# Altium schematic symbol library BMS.Sch.Lib.SchLib: 71 symbols (part 1 of 3)
Pins are listed as number, name and electrical type; pins without a type are passive.

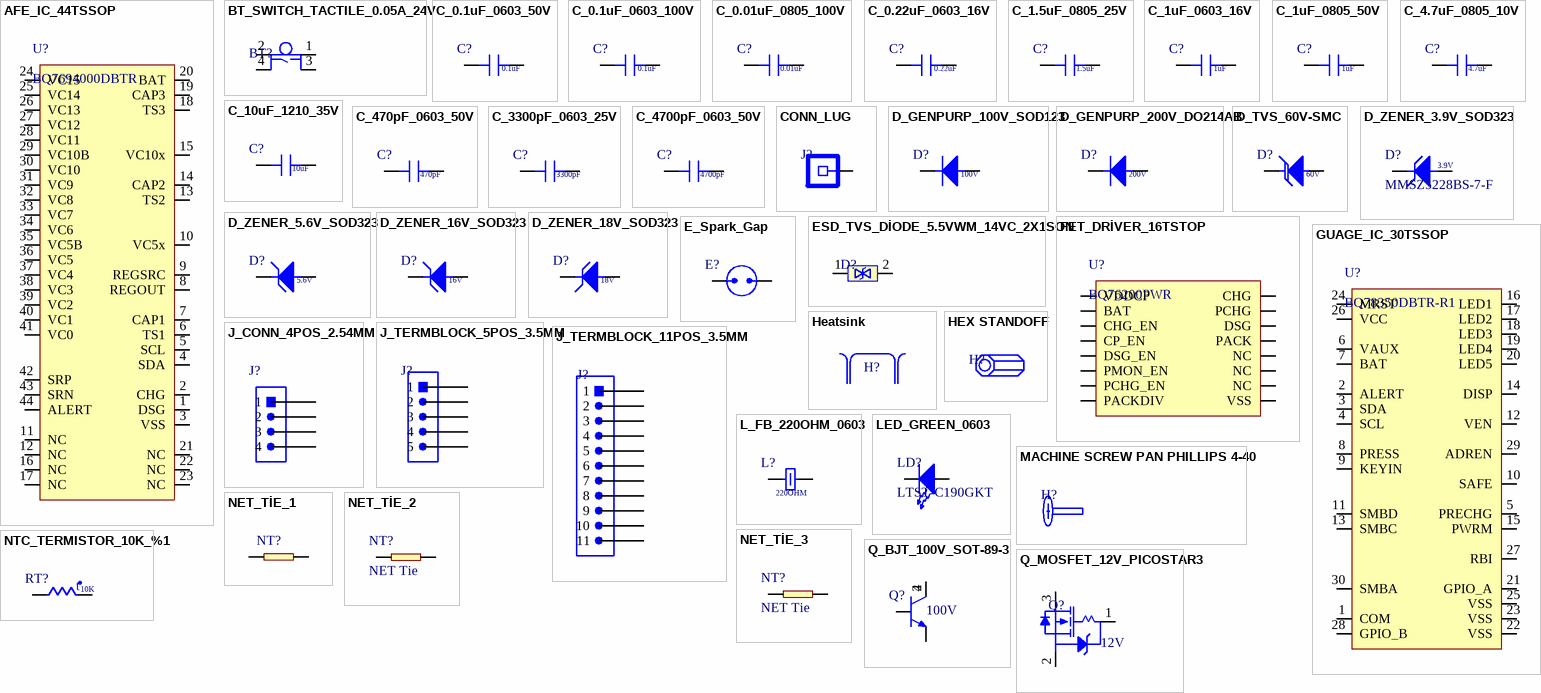
[diagram p0: symbols AFE_IC_44TSSOP to Q_MOSFET_12V_PICOSTAR3]

## AFE_IC_44TSSOP
designator U?, comment BQ7694000DBTR
9 to 15-series cell li-ion and li-phosphate battery monitor (bq76940 family) 44-TSSOP -40 to 85; Manufacturer: Texas Instruments; Supplier: Digikey; Supplier Part Number: 296-BQ7694000DBTRCT-ND; Manufacturer Part Number: BQ7694000DBTR; RoHS: Yes; Category: Battery Management; Stock: 2000; Pricing: 1=5,92, 10=5,317, 25=5,0268, 100=4,3565, 250=4,13312, 500=3,70864, 1000=3,12777 (USD); ComponentLink1URL: http://www.ti.com/lit/gpn/bq76940?src-supplier=Mouser; ComponentLink1Description: http://www.ti.com/lit/gpn/bq76940?src-supplier=Mouser; ComponentLink2URL: http://www.ti.com/general/docs/suppproductinfo.tsp?distId=10&amp;gotoUrl=http%3A%2F%2Fwww.ti.com%2Flit%2Fgpn%2Fbq76920&src-supplier=Digikey; ComponentLink2Description: http://www.ti.com/general/docs/suppproductinfo.tsp?distId=10&amp;gotoUrl=http%3A%2F%2Fwww.ti.com%2Flit%2Fgpn%2Fbq76920&src-supplier=Digikey; ComponentLink3URL: http://www.ti.com/general/docs/lit/getliterature.tsp?genericPartNumber=BQ76920&&fileType=pdf&src-supplier=Avnet; ComponentLink3Description: http://www.ti.com/general/docs/lit/getliterature.tsp?genericPartNumber=BQ76920&&fileType=pdf&src-supplier=Avnet
footprint 44TSSOP
pins: 1 DSG, 2 CHG, 3 VSS, 4 SDA, 5 SCL, 6 TS1, 7 CAP1, 8 REGOUT, 9 REGSRC, 10 VC5x, 11 NC, 12 NC, 13 TS2, 14 CAP2, 15 VC10x, 16 NC, 17 NC, 18 TS3, 19 CAP3, 20 BAT, 21 NC, 22 NC, 23 NC, 24 VC15, 25 VC14, 26 VC13, 27 VC12, 28 VC11, 29 VC10B, 30 VC10, 31 VC9, 32 VC8, 33 VC7, 34 VC6, 35 VC5B, 36 VC5, 37 VC4, 38 VC3, 39 VC2, 40 VC1, 41 VC0, 42 SRP, 43 SRN, 44 ALERT

## BT_SWITCH_TACTILE_0.05A_24V
designator BT?, comment 1977223-6  (value not drawn)
Pushbutton Switch, SPST, Momentary, 0.05A, 24VDC, Solder Terminal, Panel Mount; Manufacturer: TE Connectivity; Manufacturer Part Number: FSM4JSMA; Actuator Material: Polyphenylene; Mechanical Life: 100000Cycles; Operating Force: 1.57N; Illumination Type: Non-Illuminated,Illuminated; Switch Function: Off-Mom; Switch Travel: 0.25mm; Current Rating: 50mA; Voltage Rating (DC): 24V; Actuator Type: Standard; Insulation Resistance: 100MR; Actuator Length: 1.4mm; Number of Positions: 2NUMBER; Supplier: Farnell; Supplier Part Number: 3801305; RoHS: Yes; Category: Pushbutton Switches; Stock: 16293; Pricing: 10=0,175, 50=0,173, 100=0,171, 500=0,168 (EUR); Mounting Technology: Surface Mount; Case/Package: SMD/SMT; Contact Material: Copper Alloy,Silver; Contact Plating: Silver; Color: Black; Min Operating Temperature: -35°C; Max Operating Temperature: 85°C; Packaging: Bulk; Throw Configuration: SPST; Termination: Gull Wing; Contact Current Rating: 50mA; Orientation: Straight; Series: FSMJSMA; Max Current Rating: 50mA; Voltage Rating: 24V; Package Quantity: 750; Length: 6mm; Width: 6mm; Depth: 10mm; Reach SVHC Compliant: Unknown; Lead Free: Lead Free; RoHS Compliant: Yes; ELV: Compliant; ComponentLink1URL: https://datasheet.ciiva.com/16312/1977223-8-16312304.pdf?src-supplier=Future+Electronics; ComponentLink1Description: https://datasheet.ciiva.com/16312/1977223-8-16312304.pdf?src-supplier=Future+Electronics; ComponentLink2URL: https://datasheet.ciiva.com/30161/19772236780a-30161988.pdf?src-supplier=Onlinecomponents.com; ComponentLink2Description: https://datasheet.ciiva.com/30161/19772236780a-30161988.pdf?src-supplier=Onlinecomponents.com; ComponentLink3URL: https://datasheet.ciiva.com/41839/eng-cd-1977223-a4-41839198.pdf?src-supplier=Digikey; ComponentLink3Description: https://datasheet.ciiva.com/41839/eng-cd-1977223-a4-41839198.pdf?src-supplier=Digikey; ComponentLink4URL: https://datasheet.ciiva.com/41834/eng-cd-1977223-a4-41834279.pdf?src-supplier=Digikey; ComponentLink4Description: https://datasheet.ciiva.com/41834/eng-cd-1977223-a4-41834279.pdf?src-supplier=Digikey
footprint BUTTOM
pins: 1, 2, 3, 4

## C_0.1uF_0603_50V
designator C?, comment value 0.1uF  (hidden comment: C1608X7R1H104K080AA)
Ceramic Capacitor, Multilayer, Ceramic, 50V, 10% -Tol, X7R, 15% Tc, 0.1Uf, Surface Mount, 0603; Manufacturer: TDK; Material: 4241ConductorMaterial; Supplier: Mouser; Supplier Part Number: 810-C1608X7R1H104K; Manufacturer Part Number: C1608X7R1H104K080AA; RoHS: Yes; Category: Ceramic Capacitors; Stock: 870852; Pricing: 1=0,1, 10=0,041, 50=0,041, 100=0,024, 1000=0,018, 10000=0,015 (USD); Mounting Technology: Surface Mount; Case/Package: 0603; Pins: 2NUMBER; Case Code (Imperial): 0603; Case Code (Metric): 1608; Dielectric Material: 4241ConductorMaterial; Min Operating Temperature: -55°C; Max Operating Temperature: 125°C; Voltage Rating: 50V; Tolerance: 10%; Packaging: Tape and Reel; Package Quantity: 1; Dielectric: X7R; Termination: SMD/SMT; Voltage: 50V; Series: C; Construction: Flat; Length: 1.6mm; Width: 0.031inch; Height: 0.8mm; Thickness: 0.037inch; Depth: 0.8mm; Reach SVHC Compliant: No; RoHS Compliant: Yes; Lead Free: 5697LeadFree
footprint C_0603
pins: 1, 2

## C_0.1uF_0603_100V
designator C?, comment value 0.1uF  (hidden comment: GRM188R72A104KA35D)
Multilayer Ceramic Capacitor, 0.1 uF, 100 V, ± 10%, X7R, 0603 [1608 Metric]; Manufacturer: Murata; Voltage Rating: 100V; Supplier: Mouser; Supplier Part Number: 81-GRM188R72A104KA35; Manufacturer Part Number: GRM188R72A104KA35D; RoHS: Yes; Category: Ceramic Capacitors; Stock: 809956; Pricing: 1=0,2, 10=0,086, 50=0,086, 100=0,05, 1000=0,043, 10000=0,035 (USD); Mounting Technology: Surface Mount; Case/Package: 0603; Weight: 0.000222oz; Case Code (Imperial): 0603; Case Code (Metric): 1608; Material: Ceramic; Min Operating Temperature: -55°C; Max Operating Temperature: 125°C; Tolerance: 10%; Dielectric: X7R; Voltage Rating (DC): 100V; Packaging: Tape and Reel; Package Quantity: 1; Termination: SMD/SMT; Voltage: 100V; Series: GRM; Construction: Flat; Length: 1.6mm; Width: 0.031inch; Height: 0.8mm; Thickness: 0.035inch; Depth: 0.8mm; Size: 0.8mm; Radiation Hardening: No; Reach SVHC Compliant: No; RoHS Compliant: Yes; Lead Free: 5697LeadFree; ComponentLink1URL: https://datasheet.ciiva.com/18100/getdatasheetpartid-27818-18100710.pdf?src-supplier=Verical; ComponentLink1Description: https://datasheet.ciiva.com/18100/getdatasheetpartid-27818-18100710.pdf?src-supplier=Verical; ComponentLink2URL: https://datasheet.ciiva.com/22703/1747473-22703345.pdf?src-supplier=Element14; ComponentLink2Description: https://datasheet.ciiva.com/22703/1747473-22703345.pdf?src-supplier=Element14; ComponentLink3URL: https://datasheet.ciiva.com/34302/1857815-34302863.pdf?src-supplier=Jameco; ComponentLink3Description: https://datasheet.ciiva.com/34302/1857815-34302863.pdf?src-supplier=Jameco; ComponentLink4URL: https://datasheet.ciiva.com/11787/0900766b80ef921d-11787064.pdf?src-supplier=Rs; ComponentLink4Description: https://datasheet.ciiva.com/11787/0900766b80ef921d-11787064.pdf?src-supplier=Rs; ComponentLink5URL: https://datasheet.ciiva.com/29201/451984-da-01-en-vs-kondensator-0603-29201725.pdf?src-supplier=Conrad; ComponentLink5Description: https://datasheet.ciiva.com/29201/451984-da-01-en-vs-kondensator-0603-29201725.pdf?src-supplier=Conrad; ComponentLink6URL: https://datasheet.ciiva.com/7937/1747473-7937676.pdf?src-supplier=Element14; ComponentLink6Description: https://datasheet.ciiva.com/7937/1747473-7937676.pdf?src-supplier=Element14; ComponentLink7URL: https://datasheet.ciiva.com/135/partnumbering-e-01-135140.pdf?src-supplier=Digikey; ComponentLink7Description: https://datasheet.ciiva.com/135/partnumbering-e-01-135140.pdf?src-supplier=Digikey; ComponentLink8URL: https://datasheet.ciiva.com/135/partnumbering-e-01-135139.pdf?src-supplier=Digikey; ComponentLink8Description: https://datasheet.ciiva.com/135/partnumbering-e-01-135139.pdf?src-supplier=Digikey; ComponentLink9URL: https://datasheet.ciiva.com/135/partnumbering-e-01-135141.pdf?src-supplier=Digikey; ComponentLink9Description: https://datasheet.ciiva.com/135/partnumbering-e-01-135141.pdf?src-supplier=Digikey; ComponentLink10URL: https://datasheet.ciiva.com/16382/product-16382965.pdf?src-supplier=Future+Electronics; ComponentLink10Description: https://datasheet.ciiva.com/16382/product-16382965.pdf?src-supplier=Future+Electronics
footprint C_0603
pins: 1, 2

## C_0.01uF_0805_100V
designator C?, comment value 0.01uF  (hidden comment: KGM21NR72A103KT)
Cap Cer 10000PF 100V X7R 0805; Manufacturer: Kyocera AVX; Supplier: Mouser; Supplier Part Number: 581-KGM21NR72A103KT; Manufacturer Part Number: KGM21NR72A103KT; RoHS: No; Category: Ceramic Capacitors; Stock: 110390; Pricing: 1=0,11, 10=0,044, 50=0,044, 100=0,026, 1000=0,019, 10000=0,016 (USD)
footprint C_0805
pins: 1, 2

## C_0.22uF_0603_16V
designator C?, comment value 0.22uF  (hidden comment: 885012206048)
Ceramic Capacitor 220nF, 16VDC, 0603, ±10 %; Manufacturer: Wurth Electronics; Insulation Resistance: 2.3GR; Supplier: Mouser; Supplier Part Number: 710-885012206048; Manufacturer Part Number: 885012206048; RoHS: Yes; Category: Ceramic Capacitors; Stock: 28778; Pricing: 1=0,1, 10=0,044, 50=0,044, 100=0,04, 1000=0,035, 10000=0,029 (USD); Height: 800um; ComponentLink1URL: http://www.farnell.com/datasheets/1995922.pdf?src-supplier=Farnell; ComponentLink1Description: http://www.farnell.com/datasheets/1995922.pdf?src-supplier=Farnell; ComponentLink2URL: https://katalog.we-online.de/pbs/datasheet/885012206048.pdf?src-supplier=Digikey; ComponentLink2Description: https://katalog.we-online.de/pbs/datasheet/885012206048.pdf?src-supplier=Digikey; ComponentLink3URL: https://datasheet.octopart.com/885012206048-W%C3%BCrth-Elektronik-datasheet-61282229.pdf?src-supplier=Element14; ComponentLink3Description: https://datasheet.octopart.com/885012206048-W%C3%BCrth-Elektronik-datasheet-61282229.pdf?src-supplier=Element14
footprint C_0603
pins: 1, 2

## C_1.5uF_0805_25V
designator C?, comment value 1.5uF  (hidden comment: GRM21BR71E155KA88L)
0805 1.5 uF 25 V ±10% Tolerance X7R SMT Multilayer Ceramic Capacitor; Manufacturer: Murata; Voltage Rating: 25V; Supplier: Mouser; Supplier Part Number: 81-GRM21BR71E155KA8L; Manufacturer Part Number: GRM21BR71E155KA88L; RoHS: Yes; Category: Ceramic Capacitors; Stock: 48189; Pricing: 1=0,49, 10=0,245, 50=0,245, 100=0,157, 1000=0,129, 10000=0,085 (USD); Mounting Technology: Surface Mount; Case/Package: 0805; Case Code (Imperial): 0805; Case Code (Metric): 2012; Min Operating Temperature: -55°C; Max Operating Temperature: 125°C; Tolerance: 10%; Dielectric: X7R; Packaging: Tape and Reel; Voltage Rating (DC): 25V; Package Quantity: 1; Termination: SMD/SMT; Voltage: 25V; Series: GRM; Construction: Flat; Length: 2mm; Width: 0.049inch; Height: 1.25mm; Thickness: 0.053inch; Depth: 1.25mm; Radiation Hardening: No; Lead Free: Lead Free; RoHS Compliant: Yes; ComponentLink1URL: https://datasheet.ciiva.com/172/product-172215.pdf?src-supplier=Digikey; ComponentLink1Description: https://datasheet.ciiva.com/172/product-172215.pdf?src-supplier=Digikey; ComponentLink2URL: https://datasheet.ciiva.com/172/product-172214.pdf?src-supplier=Digikey; ComponentLink2Description: https://datasheet.ciiva.com/172/product-172214.pdf?src-supplier=Digikey; ComponentLink3URL: https://datasheet.ciiva.com/3778/131grm21br71e155ka8823-3778948.pdf?src-supplier=Arrow+Electronics; ComponentLink3Description: https://datasheet.ciiva.com/3778/131grm21br71e155ka8823-3778948.pdf?src-supplier=Arrow+Electronics; ComponentLink4URL: https://datasheet.ciiva.com/29534/partnumbering-e-01-29534267.pdf?src-supplier=Digikey; ComponentLink4Description: https://datasheet.ciiva.com/29534/partnumbering-e-01-29534267.pdf?src-supplier=Digikey; ComponentLink5URL: https://datasheet.ciiva.com/11615/product-11615739.pdf?src-supplier=Avnet; ComponentLink5Description: https://datasheet.ciiva.com/11615/product-11615739.pdf?src-supplier=Avnet; ComponentLink6URL: https://datasheet.ciiva.com/16219/l0005e-16219125.pdf?src-supplier=Future+Electronics; ComponentLink6Description: https://datasheet.ciiva.com/16219/l0005e-16219125.pdf?src-supplier=Future+Electronics
footprint C_0805
pins: 1, 2

## C_1uF_0603_16V
designator C?, comment value 1uF  (hidden comment: 885012206052)
Capacitor, 1uF Multilayer Ceramic MLCC 16 V , X7R Dielectric 0603 Surface Mount | Wurth Electronics 885012206052; Material: 4241ConductorMaterial; Voltage Rating: 16V; Tolerance: 10%; Insulation Resistance: 100MR; Supplier: Mouser; Supplier Part Number: 710-885012206052; Manufacturer: Wurth Electronics; Manufacturer Part Number: 885012206052; RoHS: Yes; Category: Ceramic Capacitors; Stock: 13778; Pricing: 1=0,16, 10=0,153, 50=0,153, 100=0,141, 1000=0,123, 10000=0,11 (USD); Mounting Technology: Surface Mount; Case/Package: 0603; Case Code (Metric): 1608; Case Code (Imperial): 0603; Min Operating Temperature: -55°C; Max Operating Temperature: 125°C; Packaging: Cut Tape; Dielectric: X7R; Series: WCAP-CSGP; Voltage Rating (DC): 16V; Length: 0.063inch; Width: 0.031inch; Height: 800um; Thickness: 0.037inch; RoHS Compliant: Yes; Reach SVHC Compliant: Unknown; ComponentLink1URL: http://www.farnell.com/datasheets/1958472.pdf?src-supplier=Farnell; ComponentLink1Description: http://www.farnell.com/datasheets/1958472.pdf?src-supplier=Farnell; ComponentLink2URL: http://www.farnell.com/datasheets/1958472.pdf?src-supplier=Element14; ComponentLink2Description: http://www.farnell.com/datasheets/1958472.pdf?src-supplier=Element14; ComponentLink3URL: https://katalog.we-online.de/pbs/datasheet/885012206052.pdf?src-supplier=Digikey; ComponentLink3Description: https://katalog.we-online.de/pbs/datasheet/885012206052.pdf?src-supplier=Digikey; ComponentLink4URL: http://katalog.we-online.de/pbs/datasheet/885012206052.pdf?src-supplier=Digikey; ComponentLink4Description: http://katalog.we-online.de/pbs/datasheet/885012206052.pdf?src-supplier=Digikey; ComponentLink5URL: http://www.farnell.com/datasheets/1958472.pdf?src-supplier=Newark; ComponentLink5Description: http://www.farnell.com/datasheets/1958472.pdf?src-supplier=Newark
footprint C_0603
pins: 1, 2

## C_1uF_0805_50V
designator C?, comment value 1uF  (hidden comment: GRM21BR71H105KA12L)
CAP CER 1UF 50V X7R 0805; Voltage-Rate: 25V; Tolerance: +-10%; Package / Case: 0805(2012 Metric); Operating Temperature: -55°C ~ 125°C; Temperature Coefficient: X7R
footprint C_0805
pins: 1, 2

## C_4.7uF_0805_10V
designator C?, comment value 4.7uF  (hidden comment: 885012207025)
Multilayer Ceramic Capacitor, Wcap-Csgp Series, 4.7 F, 10%, X7R, 10 V, 0805 [2012 Metric] Rohs Compliant: Yes; Manufacturer: Wurth Electronics; Insulation Resistance: 20MR; Supplier: Mouser; Supplier Part Number: 710-885012207025; Manufacturer Part Number: 885012207025; RoHS: Yes; Category: Ceramic Capacitors; Stock: 5855; Pricing: 1=0,83, 10=0,765, 50=0,765, 100=0,705, 1000=0,612, 10000=0,551 (USD); Height: 1.25mm; ComponentLink1URL: http://www.farnell.com/datasheets/1958489.pdf?src-supplier=Farnell; ComponentLink1Description: http://www.farnell.com/datasheets/1958489.pdf?src-supplier=Farnell; ComponentLink2URL: http://www.farnell.com/datasheets/1958489.pdf?src-supplier=Element14; ComponentLink2Description: http://www.farnell.com/datasheets/1958489.pdf?src-supplier=Element14; ComponentLink3URL: https://katalog.we-online.de/pbs/datasheet/885012207025.pdf?src-supplier=Digikey; ComponentLink3Description: https://katalog.we-online.de/pbs/datasheet/885012207025.pdf?src-supplier=Digikey
footprint C_0805
pins: 1, 2

## C_10uF_1210_35V
designator C?, comment value 10uF  (hidden comment: GRM32ER7YA106KA12L)
Multilayer Ceramic Capacitor, 10 uF, 35 V, ± 10%, X7R, 1210 [3225 Metric]; Manufacturer: Murata; Voltage Rating (DC): 35V; Supplier: Mouser; Supplier Part Number: 81-GRM32ER7YA106KA2L; Manufacturer Part Number: GRM32ER7YA106KA12L; RoHS: Yes; Category: Ceramic Capacitors; Stock: 33140; Pricing: 1=0,93, 10=0,661, 50=0,591, 100=0,487, 1000=0,341, 10000=0,298 (USD); Mounting Technology: Surface Mount; Case/Package: 1210; Case Code (Imperial): 1210; Case Code (Metric): 3225; Material: Ceramic; Min Operating Temperature: -55°C; Max Operating Temperature: 125°C; Tolerance: 10%; Dielectric: X7R; Packaging: Tape and Reel; Package Quantity: 1; Voltage Rating: 35V; Termination: SMD/SMT; Voltage: 35V; Series: GRM; Construction: Flat; Length: 3.2mm; Width: 0.098inch; Height: 2.5mm; Thickness: 0.106inch; Depth: 2.5mm; Radiation Hardening: No; Reach SVHC Compliant: No; RoHS Compliant: Yes; Lead Free: 5697LeadFree; ComponentLink1URL: https://datasheet.ciiva.com/22782/1747495-22782197.pdf?src-supplier=Farnell; ComponentLink1Description: https://datasheet.ciiva.com/22782/1747495-22782197.pdf?src-supplier=Farnell; ComponentLink2URL: https://datasheet.ciiva.com/11789/0900766b80ef921d-11789082.pdf?src-supplier=Rs; ComponentLink2Description: https://datasheet.ciiva.com/11789/0900766b80ef921d-11789082.pdf?src-supplier=Rs; ComponentLink3URL: https://datasheet.ciiva.com/3777/grm32er7ya106ka1223-3777248.pdf?src-supplier=Arrow+Electronics; ComponentLink3Description: https://datasheet.ciiva.com/3777/grm32er7ya106ka1223-3777248.pdf?src-supplier=Arrow+Electronics; ComponentLink4URL: https://datasheet.ciiva.com/29202/451166-da-01-de-vs-chip-kond-1210-10-0-uf-10pr-35-0v-x7r-29202478.pdf?src-supplier=Conrad; ComponentLink4Description: https://datasheet.ciiva.com/29202/451166-da-01-de-vs-chip-kond-1210-10-0-uf-10pr-35-0v-x7r-29202478.pdf?src-supplier=Conrad; ComponentLink5URL: https://datasheet.ciiva.com/29199/455226-da-01-en-vs-kondensator-1210-29199348.pdf?src-supplier=Conrad; ComponentLink5Description: https://datasheet.ciiva.com/29199/455226-da-01-en-vs-kondensator-1210-29199348.pdf?src-supplier=Conrad; ComponentLink6URL: https://datasheet.ciiva.com/14116/grmseries-highdielectrictype-eng-14116380.pdf?src-supplier=Distrelec; ComponentLink6Description: https://datasheet.ciiva.com/14116/grmseries-highdielectrictype-eng-14116380.pdf?src-supplier=Distrelec; ComponentLink7URL: https://datasheet.ciiva.com/7937/1747495-7937786.pdf?src-supplier=Element14; ComponentLink7Description: https://datasheet.ciiva.com/7937/1747495-7937786.pdf?src-supplier=Element14; ComponentLink8URL: https://datasheet.ciiva.com/143/partnumbering-e-01-143241.pdf?src-supplier=Digikey; ComponentLink8Description: https://datasheet.ciiva.com/143/partnumbering-e-01-143241.pdf?src-supplier=Digikey; ComponentLink9URL: https://datasheet.ciiva.com/143/partnumbering-e-01-143242.pdf?src-supplier=Digikey; ComponentLink9Description: https://datasheet.ciiva.com/143/partnumbering-e-01-143242.pdf?src-supplier=Digikey; ComponentLink10URL: https://datasheet.ciiva.com/11607/product-11607514.pdf?src-supplier=Avnet; ComponentLink10Description: https://datasheet.ciiva.com/11607/product-11607514.pdf?src-supplier=Avnet
footprint C_1210
pins: 1, 2

## C_470pF_0603_50V
designator C?, comment value 470pF  (hidden comment: 885012206081)
WCAP-CSGP 0603 (1608Metric) Ceramic Capacitor 0.063Lx0.031W 1.60mmx0.80mm X7R ±10% 470pF; Manufacturer: Wurth Electronics; Dielectric: 1511DielectricType; Insulation Resistance: 10GR; Voltage Rating (DC): 50V; Supplier: Digikey; Supplier Part Number: 732-7999-1-ND; Manufacturer Part Number: 885012206081; RoHS: Yes; Category: Ceramic Capacitors; Stock: 6003; Pricing: 1=0,1, 10=0,025, 100=0,023, 500=0,02 (USD); Height: 800um; ComponentLink1URL: http://www.farnell.com/datasheets/2031849.pdf?src-supplier=Farnell; ComponentLink1Description: http://www.farnell.com/datasheets/2031849.pdf?src-supplier=Farnell; ComponentLink2URL: http://www.farnell.com/datasheets/2031849.pdf?src-supplier=Newark; ComponentLink2Description: http://www.farnell.com/datasheets/2031849.pdf?src-supplier=Newark; ComponentLink3URL: http://katalog.we-online.de/pbs/datasheet/885012206081.pdf?src-supplier=Digikey; ComponentLink3Description: http://katalog.we-online.de/pbs/datasheet/885012206081.pdf?src-supplier=Digikey; ComponentLink4URL: https://katalog.we-online.de/pbs/datasheet/885012206081.pdf?src-supplier=Digikey; ComponentLink4Description: https://katalog.we-online.de/pbs/datasheet/885012206081.pdf?src-supplier=Digikey
footprint C_0603
pins: 1, 2

## C_3300pF_0603_25V
designator C?, comment value 3300pF  (hidden comment: GRM188R71E332KA01D)
Multilayer Ceramic Capacitor, 0.1 uF, 100 V, ± 10%, X7R, 0603 [1608 Metric]; Manufacturer: Murata; Manufacturer Part Number: GRM188R72A104KA35D; Voltage Rating: 100V; Supplier: Mouser; Supplier Part Number: 81-GRM188R72A104KA35; RoHS: Yes; Category: Ceramic Capacitors; Stock: 809956; Pricing: 1=0,2, 10=0,086, 50=0,086, 100=0,05, 1000=0,043, 10000=0,035 (USD); Mounting Technology: Surface Mount; Case/Package: 0603; Weight: 0.000222oz; Case Code (Imperial): 0603; Case Code (Metric): 1608; Material: Ceramic; Min Operating Temperature: -55°C; Max Operating Temperature: 125°C; Voltage Rating (DC): 100V; Tolerance: 10%; Packaging: Tape and Reel; Package Quantity: 1; Dielectric: X7R; Termination: SMD/SMT; Voltage: 100V; Series: GRM; Construction: Flat; Length: 1.6mm; Width: 0.031inch; Height: 0.8mm; Thickness: 0.035inch; Depth: 0.8mm; Size: 0.8mm; Radiation Hardening: No; Reach SVHC Compliant: No; RoHS Compliant: Yes; Lead Free: 5697LeadFree; ComponentLink1URL: https://datasheet.ciiva.com/18100/getdatasheetpartid-27818-18100710.pdf?src-supplier=Verical; ComponentLink1Description: https://datasheet.ciiva.com/18100/getdatasheetpartid-27818-18100710.pdf?src-supplier=Verical
footprint C_0603
pins: 1, 2

## C_4700pF_0603_50V
designator C?, comment value 4700pF  (hidden comment: 885012206087)
Cap Cer 4700PF 50V X7R 0603; Manufacturer: Wurth Electronics; Tolerance: 10%; Insulation Resistance: 10GR; Supplier: Mouser; Supplier Part Number: 710-885012206087; Manufacturer Part Number: 885012206087; RoHS: Yes; Category: Ceramic Capacitors; Stock: 9914; Pricing: 1=0,1, 10=0,02, 50=0,02, 100=0,018, 1000=0,015, 10000=0,012 (USD); Mounting Technology: Surface Mount; Case/Package: 0603; Case Code (Metric): 1608; Case Code (Imperial): 0603; Min Operating Temperature: -55°C; Max Operating Temperature: 125°C; Packaging: Cut Tape; Voltage Rating: 50V; Dielectric: X7R; Voltage Rating (DC): 50V; Series: WCAP-CSGP; Length: 0.063inch; Width: 0.031inch; Height: 800um; Thickness: 0.037inch; RoHS Compliant: Yes; Reach SVHC Compliant: Unknown; ComponentLink1URL: http://www.farnell.com/datasheets/1958481.pdf?src-supplier=Farnell; ComponentLink1Description: http://www.farnell.com/datasheets/1958481.pdf?src-supplier=Farnell; ComponentLink2URL: https://datasheet.octopart.com/885012206087-W%C3%BCrth-Elektronik-datasheet-62053755.pdf?src-supplier=Element14; ComponentLink2Description: https://datasheet.octopart.com/885012206087-W%C3%BCrth-Elektronik-datasheet-62053755.pdf?src-supplier=Element14; ComponentLink3URL: https://katalog.we-online.de/pbs/datasheet/885012206087.pdf?src-supplier=Digikey; ComponentLink3Description: https://katalog.we-online.de/pbs/datasheet/885012206087.pdf?src-supplier=Digikey; ComponentLink4URL: http://www.farnell.com/datasheets/1958481.pdf?src-supplier=Newark; ComponentLink4Description: http://www.farnell.com/datasheets/1958481.pdf?src-supplier=Newark
footprint C_0603
pins: 1, 2

## CONN_LUG
designator J?, comment ML4-CY  (value not drawn)
One-hole copper single barrel post lug straight tongue 14 SOL - 4 STR 1/4 (6.4mm) stud hole.; Manufacturer: Panduit; Supplier: Digikey; Supplier Part Number: 298-11858-ND; Manufacturer Part Number: ML4-CY; RoHS: Yes; Category: Terminals; Stock: 1277; Pricing: 1=3,08, 10=2,994, 25=2,9112, 50=2,828, 100=2,7449, 500=2,6617, 1000=2,57852 (USD); ComponentLink1URL: https://datasheet.ciiva.com/13579/c41569-05-259894-13579514.pdf?src-supplier=Mouser; ComponentLink1Description: https://datasheet.ciiva.com/13579/c41569-05-259894-13579514.pdf?src-supplier=Mouser; ComponentLink2URL: https://datasheet.ciiva.com/30261/cmscont-082463-30261378.pdf?src-supplier=Onlinecomponents.com; ComponentLink2Description: https://datasheet.ciiva.com/30261/cmscont-082463-30261378.pdf?src-supplier=Onlinecomponents.com; ComponentLink3URL: https://datasheet.ciiva.com/16062/099037-16062195.pdf?src-supplier=Onlinecomponents.com; ComponentLink3Description: https://datasheet.ciiva.com/16062/099037-16062195.pdf?src-supplier=Onlinecomponents.com; ComponentLink4URL: https://datasheet.ciiva.com/29672/c41569-05-29672890.pdf?src-supplier=Digikey; ComponentLink4Description: https://datasheet.ciiva.com/29672/c41569-05-29672890.pdf?src-supplier=Digikey
footprint CONN_LUG
pins: 1

## D_GENPURP_100V_SOD123
designator D?, comment value 100V  (hidden comment: 1N4148W-7-F)
Small Signal Diode, Single, 100 V, 300 mA, 1.25 V, 4 ns, 2 A RoHS Compliant: Yes; Manufacturer: Diodes; Forward Current: 150mA; Peak Non-Repetitive Surge Current: 2A; Forward Voltage: 1.25V; Reverse Recovery Time: 4ns; Max Reverse Current: 1uA; Average Rectified Current: 300mA; Power Dissipation: 400mW; Polarity: Standard; Voltage Rating (DC): 75V; Supplier: Future Electronics; Supplier Part Number: 4129355; Manufacturer Part Number: 1N4148W-7-F; RoHS: Yes; Category: LDO; Stock: 22659000; Pricing: 3000=0,0105, 12000=0,0099, 45000=0,0093, 60000=0,0094, 75000=0,0092, 120000=0,0092, 150000=0,0086, 375000=0,0086 (USD); Mounting Technology: Surface Mount; Pins: 2; Weight: 0.000353oz; Min Operating Temperature: -65°C; Max Operating Temperature: 150°C; Packaging: Tape and Reel; Max Repetitive Reverse Voltage (Vrrm): 100V; Max Forward Surge Current (Ifsm): 2A; Voltage: 100V; Max Surge Current: 2A; Package Quantity: 3000; Recovery Time: 4ns; Power Rating: 400mW; Current Rating: 150mA; Output Current: 150mA; Max Reverse Voltage (DC): 100V; Series: -; Reverse Recovery Time-Max: 4ns; Reverse Voltage: 100V; Length: 2.85mm; Width: 1.7mm; Height: 1.25mm; Radiation Hardening: No; Reach SVHC Compliant: No; RoHS Compliant: Yes; Lead Free: Lead Free; ComponentLink1URL: https://datasheet.ciiva.com/8303/ds30086-8303197.pdf?src-supplier=Avnet; ComponentLink1Description: https://datasheet.ciiva.com/8303/ds30086-8303197.pdf?src-supplier=Avnet; ComponentLink2URL: https://datasheet.ciiva.com/911/ds30086-911735.pdf?src-supplier=Digikey; ComponentLink2Description: https://datasheet.ciiva.com/911/ds30086-911735.pdf?src-supplier=Digikey; ComponentLink3URL: https://datasheet.ciiva.com/911/ds30086-911736.pdf?src-supplier=Digikey; ComponentLink3Description: https://datasheet.ciiva.com/911/ds30086-911736.pdf?src-supplier=Digikey; ComponentLink4URL: https://datasheet.ciiva.com/911/ds30086-911734.pdf?src-supplier=Digikey; ComponentLink4Description: https://datasheet.ciiva.com/911/ds30086-911734.pdf?src-supplier=Digikey; ComponentLink5URL: https://datasheet.ciiva.com/1179/1915529-1179304.pdf?src-supplier=Element14; ComponentLink5Description: https://datasheet.ciiva.com/1179/1915529-1179304.pdf?src-supplier=Element14; ComponentLink6URL: https://datasheet.ciiva.com/22695/1915529-22695239.pdf?src-supplier=Element14; ComponentLink6Description: https://datasheet.ciiva.com/22695/1915529-22695239.pdf?src-supplier=Element14; ComponentLink7URL: https://datasheet.ciiva.com/8300/ds30086-8300392.pdf?src-supplier=Avnet; ComponentLink7Description: https://datasheet.ciiva.com/8300/ds30086-8300392.pdf?src-supplier=Avnet; ComponentLink8URL: https://datasheet.ciiva.com/15219/getdatasheetpartid-110030-15219548.pdf?src-supplier=Verical; ComponentLink8Description: https://datasheet.ciiva.com/15219/getdatasheetpartid-110030-15219548.pdf?src-supplier=Verical; ComponentLink9URL: https://datasheet.ciiva.com/4435/ds30086-4435128.pdf?src-supplier=Mouser; ComponentLink9Description: https://datasheet.ciiva.com/4435/ds30086-4435128.pdf?src-supplier=Mouser
footprint D_SOD123
pins: 1, 2

## D_GENPURP_200V_DO214AB
designator D?, comment value 200V  (hidden comment: ES3D-E3/57T)
Rectifier Diode Switching 200V 3A 20ns 2-Pin SMC T/R / DIODE GEN PURP 200V 3A DO214AB; Manufacturer: Vishay Semiconductors; Forward Voltage: 900mV; Max Reverse Current: 10uA; Polarity: 4901Direction; Max Forward Surge Current (Ifsm): 100A; Element Configuration: 5460ElementConfiguration; Recovery Time: 30ns; Supplier: Mouser; Supplier Part Number: 625-ES3D-E3; Manufacturer Part Number: ES3D-E3/57T; RoHS: Yes; Category: Rectifier Diodes; Stock: 79027; Pricing: 1=0,59, 10=0,48, 50=0,48, 100=0,366, 1000=0,232, 10000=0,174 (USD); Case/Package: 101Case; Pins: 2NUMBER; Min Operating Temperature: -55°C; Max Operating Temperature: 150°C; Current Rating: 3A; Forward Current: 3A; Max Repetitive Reverse Voltage (Vrrm): 200V; Voltage Rating (DC): 200V; Output Current: 3A; Peak Non-Repetitive Surge Current: 100A; Termination: 4890ConnectorType; Current: 3A; Max Surge Current: 100A; Reverse Voltage: 200V; Voltage: 200V; Length: 7.0866mm; Width: 8.13mm; Height: 2.413mm; Radiation Hardening: 5898YesNo; Lead Free: 5697LeadFree; Reach SVHC Compliant: 4187SVHC; ComponentLink1URL: http://datasheet.octopart.com/ES3D-E3-57T-Vishay-datasheet-5333027.pdf?src-supplier=Mouser; ComponentLink1Description: http://datasheet.octopart.com/ES3D-E3-57T-Vishay-datasheet-5333027.pdf?src-supplier=Mouser; ComponentLink2URL: http://datasheet.octopart.com/ES3D-E3-57T-Vishay-datasheet-5333027.pdf?src-supplier=Future+Electronics; ComponentLink2Description: http://datasheet.octopart.com/ES3D-E3-57T-Vishay-datasheet-5333027.pdf?src-supplier=Future+Electronics; ComponentLink3URL: http://datasheet.octopart.com/ES3D-E3-57T-Vishay-datasheet-5333027.pdf?src-supplier=Verical; ComponentLink3Description: http://datasheet.octopart.com/ES3D-E3-57T-Vishay-datasheet-5333027.pdf?src-supplier=Verical; ComponentLink4URL: http://datasheet.octopart.com/ES3D-E3-57T-Vishay-datasheet-5333027.pdf?src-supplier=Digikey; ComponentLink4Description: http://datasheet.octopart.com/ES3D-E3-57T-Vishay-datasheet-5333027.pdf?src-supplier=Digikey; ComponentLink5URL: https://datasheet.octopart.com/ES3D-E3-57T-Vishay-datasheet-33014097.pdf?src-supplier=Farnell; ComponentLink5Description: https://datasheet.octopart.com/ES3D-E3-57T-Vishay-datasheet-33014097.pdf?src-supplier=Farnell; ComponentLink6URL: http://datasheet.octopart.com/ES3D-E3-57T-Vishay-datasheet-5333027.pdf?src-supplier=Avnet; ComponentLink6Description: http://datasheet.octopart.com/ES3D-E3-57T-Vishay-datasheet-5333027.pdf?src-supplier=Avnet; ComponentLink7URL: https://datasheet.octopart.com/ES3D-E3-57T-Vishay-datasheet-5333027.pdf?src-supplier=Newark; ComponentLink7Description: https://datasheet.octopart.com/ES3D-E3-57T-Vishay-datasheet-5333027.pdf?src-supplier=Newark; ComponentLink8URL: https://datasheet.octopart.com/ES3D-E3-57T-Vishay-datasheet-10220666.pdf?src-supplier=Element14; ComponentLink8Description: https://datasheet.octopart.com/ES3D-E3-57T-Vishay-datasheet-10220666.pdf?src-supplier=Element14; ComponentLink9URL: http://datasheet.octopart.com/ES3D-E3-57T-Vishay-datasheet-5333027.pdf?src-supplier=Arrow+Electronics; ComponentLink9Description: http://datasheet.octopart.com/ES3D-E3-57T-Vishay-datasheet-5333027.pdf?src-supplier=Arrow+Electronics; ComponentLink10URL: http://www.farnell.com/datasheets/2237719.pdf?src-supplier=Newark; ComponentLink10Description: http://www.farnell.com/datasheets/2237719.pdf?src-supplier=Newark; ComponentLink11URL: http://datasheet.octopart.com/ES3D-E3-57T-Vishay-datasheet-5333027.pdf?src-supplier=Rutronik; ComponentLink11Description: http://datasheet.octopart.com/ES3D-E3-57T-Vishay-datasheet-5333027.pdf?src-supplier=Rutronik; ComponentLink12URL: https://datasheet.octopart.com/ES3D-E3-57T-Vishay-datasheet-62343674.pdf?src-supplier=TME; ComponentLink12Description: https://datasheet.octopart.com/ES3D-E3-57T-Vishay-datasheet-62343674.pdf?src-supplier=TME; ComponentLink13URL: http://datasheet.octopart.com/ES3D-E3-57T-Vishay-datasheet-5333027.pdf?src-supplier=Quest; ComponentLink13Description: http://datasheet.octopart.com/ES3D-E3-57T-Vishay-datasheet-5333027.pdf?src-supplier=Quest; ComponentLink14URL: http://datasheet.octopart.com/ES3D-E3-57T-Vishay-datasheet-5333027.pdf?src-supplier=TTI; ComponentLink14Description: http://datasheet.octopart.com/ES3D-E3-57T-Vishay-datasheet-5333027.pdf?src-supplier=TTI; ComponentLink15URL: http://datasheet.octopart.com/ES3D-E3-57T-Vishay-datasheet-5333027.pdf?src-supplier=LCSC; ComponentLink15Description: http://datasheet.octopart.com/ES3D-E3-57T-Vishay-datasheet-5333027.pdf?src-supplier=LCSC
footprint D_DO214AB
pins: 1, 2

## D_TVS_60V-SMC
designator D?, comment value 60V  (hidden comment: SMCJ60A)
Diode TVS Single Uni-Dir 6V 1.5KW 2-Pin DO-214AB; Manufacturer: Littelfuse; Manufacturer Part Number: SMCJ6.0A; Direction: Unidirectional; Min Breakdown Voltage: 6.67V; Peak Pulse Current: 145.7A; Test Current: 10mA; Breakdown Voltage: 66.7V; Max Breakdown Voltage: 7.37V; Max Power Dissipation: 6.5W; Max Surge Current: 15.5A; Clamping Voltage: 96.8V; Number of Channels: 1; Leakage Current: 800uA; Clamping Voltage-Max: 10.3V; Power Line Protection: No; Diode Type: ZENER; Supplier: Farnell; Supplier Part Number: 4060218; RoHS: Yes; Category: TVS Diodes; Stock: 2678; Pricing: 1=0,5, 10=0,428, 100=0,298, 500=0,233, 1000=0,22, 5000=0,206 (EUR); Mounting Technology: Surface Mount; Case/Package: DO-214AB; Pins: 2; Weight: 0.007408oz; Min Operating Temperature: -55°C; Max Operating Temperature: 150°C; Packaging: Tape and Reel; Reverse Standoff Voltage: 6V; Peak Pulse Power: 1.5kW; Polarity: Unidirectional; Power Dissipation: 1.5kW; Termination: SMD/SMT; Voltage Rating (DC): 6V; Package Quantity: 3000; Operating Supply Voltage: 6V; Series: SMCJ; Reverse Breakdown Voltage: 6.67V; Number of Unidirectional Channels: 1; Number of Elements: 1; Length: 8.13mm; Width: 6.22mm; Height: 2.62mm; Reach SVHC Compliant: No; Lead Free: Lead Free; RoHS Compliant: Yes; ComponentLink1URL: https://datasheet.ciiva.com/18549/littelfuse-tvs-diode-smcj-datasheet-pdf-18549239.pdf?src-supplier=Digikey; ComponentLink1Description: https://datasheet.ciiva.com/18549/littelfuse-tvs-diode-smcj-datasheet-pdf-18549239.pdf?src-supplier=Digikey; ComponentLink2URL: https://datasheet.ciiva.com/22685/607636-22685525.pdf?src-supplier=Element14; ComponentLink2Description: https://datasheet.ciiva.com/22685/607636-22685525.pdf?src-supplier=Element14; ComponentLink3URL: https://datasheet.ciiva.com/16215/littelfuse-tvs-diode-smcj-16215483.pdf?src-supplier=Future+Electronics; ComponentLink3Description: https://datasheet.ciiva.com/16215/littelfuse-tvs-diode-smcj-16215483.pdf?src-supplier=Future+Electronics; ComponentLink4URL: https://datasheet.ciiva.com/332/littelfuse-tvs-diode-smcj-datasheet-pdf-332130.pdf?src-supplier=Digikey; ComponentLink4Description: https://datasheet.ciiva.com/332/littelfuse-tvs-diode-smcj-datasheet-pdf-332130.pdf?src-supplier=Digikey; ComponentLink5URL: https://datasheet.ciiva.com/332/littelfuse-tvs-diode-smcj-datasheet-pdf-332131.pdf?src-supplier=Digikey; ComponentLink5Description: https://datasheet.ciiva.com/332/littelfuse-tvs-diode-smcj-datasheet-pdf-332131.pdf?src-supplier=Digikey; ComponentLink6URL: https://datasheet.ciiva.com/332/littelfuse-tvs-diode-smcj-datasheet-pdf-332129.pdf?src-supplier=Digikey; ComponentLink6Description: https://datasheet.ciiva.com/332/littelfuse-tvs-diode-smcj-datasheet-pdf-332129.pdf?src-supplier=Digikey; ComponentLink7URL: https://datasheet.ciiva.com/332/littelfuse-tvs-diode-smcj-datasheet-pdf-332202.pdf?src-supplier=Digikey; ComponentLink7Description: https://datasheet.ciiva.com/332/littelfuse-tvs-diode-smcj-datasheet-pdf-332202.pdf?src-supplier=Digikey; ComponentLink8URL: https://datasheet.ciiva.com/332/littelfuse-tvs-diode-smcj-datasheet-pdf-332203.pdf?src-supplier=Digikey; ComponentLink8Description: https://datasheet.ciiva.com/332/littelfuse-tvs-diode-smcj-datasheet-pdf-332203.pdf?src-supplier=Digikey; ComponentLink9URL: https://datasheet.ciiva.com/332/littelfuse-tvs-diode-smcj-datasheet-pdf-332201.pdf?src-supplier=Digikey; ComponentLink9Description: https://datasheet.ciiva.com/332/littelfuse-tvs-diode-smcj-datasheet-pdf-332201.pdf?src-supplier=Digikey
footprint D_SMC
pins: 1, 2

## D_ZENER_3.9V_SOD323
designator D?, comment MMSZ5228BS-7-F  value 3.9V
MMSZ5228BS Series 3.9 V 10 mA 200 mW Surface Mount Zener Diode - SOD-323; Manufacturer: Diodes; Supplier: Digikey; Supplier Part Number: MMSZ5228BS-FDICT-ND; Manufacturer Part Number: MMSZ5228BS-7-F; RoHS: Yes; Category: Zener Diodes; Stock: 78494; Pricing: 1=0,28, 10=0,191, 100=0,0933, 500=0,07784, 1000=0,05409 (USD); ComponentLink1URL: https://datasheet.ciiva.com/8348/ds31038-8348094.pdf?src-supplier=Avnet; ComponentLink1Description: https://datasheet.ciiva.com/8348/ds31038-8348094.pdf?src-supplier=Avnet; ComponentLink2URL: https://datasheet.ciiva.com/16465/ds31038-16465529.pdf?src-supplier=Future+Electronics; ComponentLink2Description: https://datasheet.ciiva.com/16465/ds31038-16465529.pdf?src-supplier=Future+Electronics; ComponentLink3URL: https://datasheet.ciiva.com/891/ds31038-891515.pdf?src-supplier=Digikey; ComponentLink3Description: https://datasheet.ciiva.com/891/ds31038-891515.pdf?src-supplier=Digikey; ComponentLink4URL: https://datasheet.ciiva.com/891/ds31038-891516.pdf?src-supplier=Digikey; ComponentLink4Description: https://datasheet.ciiva.com/891/ds31038-891516.pdf?src-supplier=Digikey; ComponentLink5URL: https://datasheet.ciiva.com/891/ds31038-891517.pdf?src-supplier=Digikey; ComponentLink5Description: https://datasheet.ciiva.com/891/ds31038-891517.pdf?src-supplier=Digikey
footprint D_SOD323
pins: 1, 2

## D_ZENER_5.6V_SOD323
designator D?, comment value 5.6V  (hidden comment: MMSZ5232BS-7-F)
Diode Zener Single 5.6V 5% 200mW Automotive 2-Pin SOD-323 T/R; Manufacturer: Diodes; Supplier: Farnell; Supplier Part Number: 3127415; Manufacturer Part Number: MMSZ5232BS-7-F; RoHS: Yes; Category: Zener Diodes; Stock: 14029; Pricing: 5=0,206, 50=0,143, 100=0,0809, 500=0,052, 1500=0,051 (EUR); ComponentLink1URL: https://datasheet.ciiva.com/10640/ds31038-10640331.pdf?src-supplier=Avnet; ComponentLink1Description: https://datasheet.ciiva.com/10640/ds31038-10640331.pdf?src-supplier=Avnet; ComponentLink2URL: https://datasheet.ciiva.com/892/ds31038-892237.pdf?src-supplier=Digikey; ComponentLink2Description: https://datasheet.ciiva.com/892/ds31038-892237.pdf?src-supplier=Digikey; ComponentLink3URL: https://datasheet.ciiva.com/892/ds31038-892238.pdf?src-supplier=Digikey; ComponentLink3Description: https://datasheet.ciiva.com/892/ds31038-892238.pdf?src-supplier=Digikey; ComponentLink4URL: https://datasheet.ciiva.com/892/ds31038-892239.pdf?src-supplier=Digikey; ComponentLink4Description: https://datasheet.ciiva.com/892/ds31038-892239.pdf?src-supplier=Digikey; ComponentLink5URL: https://datasheet.ciiva.com/16463/ds31038-16463261.pdf?src-supplier=Future+Electronics; ComponentLink5Description: https://datasheet.ciiva.com/16463/ds31038-16463261.pdf?src-supplier=Future+Electronics
footprint D_SOD323
pins: 1, 2

## D_ZENER_16V_SOD323
designator D?, comment value 16V  (hidden comment: MMSZ5246BS-7-F)
Zener Diode, 16V, 0.2W, Sod-323 Rohs Compliant: Yes |Diodes Inc. MMSZ5246BS-7-F; Manufacturer: Diodes Zetex; Supplier: Mouser; Supplier Part Number: 621-MMSZ5246BS-7-F; Manufacturer Part Number: MMSZ5246BS-7-F; RoHS: Yes; Category: Zener Diodes; Stock: 7167; Pricing: 1=0,26, 10=0,172, 50=0,172, 100=0,076, 1000=0,054, 10000=0,036 (USD); ComponentLink1URL: https://datasheet.ciiva.com/15142/getdatasheetpartid-61109-15142282.pdf?src-supplier=Verical; ComponentLink1Description: https://datasheet.ciiva.com/15142/getdatasheetpartid-61109-15142282.pdf?src-supplier=Verical; ComponentLink2URL: https://datasheet.ciiva.com/16463/ds31038-16463243.pdf?src-supplier=Future+Electronics; ComponentLink2Description: https://datasheet.ciiva.com/16463/ds31038-16463243.pdf?src-supplier=Future+Electronics; ComponentLink3URL: https://datasheet.ciiva.com/10640/ds31038-10640190.pdf?src-supplier=Avnet; ComponentLink3Description: https://datasheet.ciiva.com/10640/ds31038-10640190.pdf?src-supplier=Avnet
footprint D_SOD323
pins: 1, 2

## D_ZENER_18V_SOD323
designator D?, comment value 18V  (hidden comment: MMSZ5248BS-7-F)
Diode Zener Single 18V 5% 200mW Automotive 2-Pin SOD-323 T/R; Manufacturer: Diodes; Supplier: Mouser; Supplier Part Number: 621-MMSZ5248BS-F; Manufacturer Part Number: MMSZ5248BS-7-F; RoHS: Yes; Category: Zener Diodes; Stock: 6211; Pricing: 1=0,33, 10=0,22, 50=0,22, 100=0,094, 1000=0,072, 10000=0,05 (USD); ComponentLink1URL: https://datasheet.ciiva.com/8347/ds18010-8347928.pdf?src-supplier=Avnet; ComponentLink1Description: https://datasheet.ciiva.com/8347/ds18010-8347928.pdf?src-supplier=Avnet; ComponentLink2URL: https://datasheet.ciiva.com/892/ds31038-892342.pdf?src-supplier=Digikey; ComponentLink2Description: https://datasheet.ciiva.com/892/ds31038-892342.pdf?src-supplier=Digikey; ComponentLink3URL: https://datasheet.ciiva.com/892/ds31038-892343.pdf?src-supplier=Digikey; ComponentLink3Description: https://datasheet.ciiva.com/892/ds31038-892343.pdf?src-supplier=Digikey; ComponentLink4URL: https://datasheet.ciiva.com/892/ds31038-892344.pdf?src-supplier=Digikey; ComponentLink4Description: https://datasheet.ciiva.com/892/ds31038-892344.pdf?src-supplier=Digikey; ComponentLink5URL: https://datasheet.ciiva.com/8025/ds31038-8025788.pdf?src-supplier=Element14; ComponentLink5Description: https://datasheet.ciiva.com/8025/ds31038-8025788.pdf?src-supplier=Element14
footprint D_SOD323
pins: 1, 2

## E_Spark_Gap
designator E?, comment SPARKGAP  (value not drawn)
Spark Gap
footprint SPARK_GARP
pins: 1, 2

## ESD_TVS_DİODE_5.5VWM_14VC_2X1SON
designator D?, comment TPD1E10B06DPYT  (value not drawn)
12-pF, ±5.5V, ±30-kV ESD protection diode in 0402 and SOD-523 package 2-X1SON -40 to 125; Manufacturer: Texas Instruments; Direction: Bidirectional; Value: 12pF; Number of Bidirectional Channels: 1; Min Breakdown Voltage: 6V; Clamping Voltage: 14V; Peak Pulse Power: 90W; Power Line Protection: No; Leakage Current: 100nA; Peak Pulse Current: 5A; Interface: GPIO; Diode Type: ZENER; Supplier: Mouser; Supplier Part Number: 595-TPD1E10B06DPYT; Manufacturer Part Number: TPD1E10B06DPYT; RoHS: Yes; Category: Integrated Circuits (ICs); Stock: 43416; Pricing: 1=0,86, 10=0,743, 50=0,743, 100=0,514, 1000=0,383, 10000=0,31 (USD); Case/Package: 0402; Pins: 2; Case Code (Imperial): 0402; Case Code (Metric): 1006; Min Operating Temperature: -40°C; Max Operating Temperature: 125°C; Packaging: Tape and Reel; Package Quantity: 250; Reverse Standoff Voltage: 5.5V; Working Voltage: 5.5V; Max Power Dissipation: 90W; Number of Channels: 1; Breakdown Voltage: 6V; Series: -; Length: 1.1mm; Width: 1mm; Thickness: 370um; Radiation Hardening: No; Lead Free: Lead Free; RoHS Compliant: Yes; ComponentLink1URL: https://datasheet.ciiva.com/12545/tpd1e10b06-213725-12545103.pdf?src-supplier=Mouser; ComponentLink1Description: https://datasheet.ciiva.com/12545/tpd1e10b06-213725-12545103.pdf?src-supplier=Mouser; ComponentLink2URL: https://datasheet.ciiva.com/15186/getdatasheetpartid-726218-15186786.pdf?src-supplier=Verical; ComponentLink2Description: https://datasheet.ciiva.com/15186/getdatasheetpartid-726218-15186786.pdf?src-supplier=Verical; ComponentLink3URL: https://datasheet.ciiva.com/14195/tpd1e10b06-14195181.pdf?src-supplier=Avnet; ComponentLink3Description: https://datasheet.ciiva.com/14195/tpd1e10b06-14195181.pdf?src-supplier=Avnet; ComponentLink4URL: https://datasheet.ciiva.com/6574/tpd1e10b06-6574669.pdf?src-supplier=Digikey; ComponentLink4Description: https://datasheet.ciiva.com/6574/tpd1e10b06-6574669.pdf?src-supplier=Digikey
footprint ESD_X1SON
pins: 1, 2

## FET_DRİVER_16TSTOP
designator U?, comment BQ76200PWR
HIGH-SIDEN-CHFETDRVR16TSSOP; Manufacturer: Texas Instruments; Supplier: Digikey; Supplier Part Number: 296-43273-1-ND; Manufacturer Part Number: BQ76200PWR; RoHS: Yes; Category: Battery Management; Stock: 3882; Pricing: 1=2,71, 10=2,438, 25=2,3004, 100=1,9598, 250=1,84024, 500=1,6102, 1000=1,33416 (USD); ComponentLink1URL: http://www.ti.com/lit/gpn/bq76200?src-supplier=Mouser; ComponentLink1Description: http://www.ti.com/lit/gpn/bq76200?src-supplier=Mouser; ComponentLink2URL: http://www.ti.com/lit/ds/symlink/bq76200.pdf?src-supplier=Digikey; ComponentLink2Description: http://www.ti.com/lit/ds/symlink/bq76200.pdf?src-supplier=Digikey
footprint 16TSSOP
pins: 1 VDDCP, 2 BAT, 3 NC, 4 CHG_EN, 5 CP_EN, 6 DSG_EN, 7 PMON_EN, 8 PCHG_EN, 9 VSS, 10 PACKDIV, 11 PACK, 12 DSG, 13 NC, 14 PCHG, 15 NC, 16 CHG

## GUAGE_IC_30TSSOP
designator U?, comment BQ78350DBTR-R1
Battery Management Controller/Fuel Gauge Li-Ion/Li-Pol/LiFePO4 5.5V 30-Pin TSSOP T/R; Manufacturer: Texas Instruments; Operating Supply Voltage: 2.6V; Fault Protection: Over Current,Over Temperature,Over/Under Voltage; Interface: SMBus; Min Supply Voltage: 2.4V; Nominal Supply Current: 650uA; Supplier: Digikey; Supplier Part Number: 296-44315-1-ND; Manufacturer Part Number: BQ78350DBTR-R1; RoHS: Yes; Category: Battery Management; Stock: 3289; Pricing: 1=6,12, 10=5,5, 25=5,1996, 100=4,5062, 250=4,27512, 500=3,83606, 1000=3,23523 (USD); Mounting Technology: Surface Mount; Case/Package: TFSOP; Pins: 30; Contact Plating: Gold; Min Operating Temperature: -40°C; Max Operating Temperature: 85°C; Output Voltage: 5.5V; Series: -; Packaging: Cut Tape; Max Supply Voltage: 2.6V; Length: 7.8mm; Width: 4.4mm; Height: 1.2mm; Thickness: 1mm; RoHS Compliant: Yes; Lead Free: Lead Free; ComponentLink1URL: http://www.ti.com/lit/pdf/sluubd3?src-supplier=Digikey; ComponentLink1Description: http://www.ti.com/lit/pdf/sluubd3?src-supplier=Digikey; ComponentLink2URL: http://www.ti.com/general/docs/suppproductinfo.tsp?distId=10&amp;gotoUrl=http%3A%2F%2Fwww.ti.com%2Flit%2Fgpn%2Fbq78350-r1&src-supplier=Digikey; ComponentLink2Description: http://www.ti.com/general/docs/suppproductinfo.tsp?distId=10&amp;gotoUrl=http%3A%2F%2Fwww.ti.com%2Flit%2Fgpn%2Fbq78350-r1&src-supplier=Digikey; ComponentLink3URL: http://www.ti.com/lit/gpn/bq78350-r1?src-supplier=Mouser; ComponentLink3Description: http://www.ti.com/lit/gpn/bq78350-r1?src-supplier=Mouser; ComponentLink4URL: http://www.ti.com/general/docs/lit/getliterature.tsp?genericPartNumber=BQ78350-R1&&fileType=pdf&src-supplier=Avnet; ComponentLink4Description: http://www.ti.com/general/docs/lit/getliterature.tsp?genericPartNumber=BQ78350-R1&&fileType=pdf&src-supplier=Avnet
footprint 30TSSOP
pins: 1 COM, 2 ALERT, 3 SDA, 4 SCL, 5 PRECHG, 6 VAUX, 7 BAT, 8 PRESS, 9 KEYIN, 10 SAFE, 11 SMBD, 12 VEN, 13 SMBC, 14 DISP, 15 PWRM, 16 LED1, 17 LED2, 18 LED3, 19 LED4, 20 LED5, 21 GPIO_A, 22 VSS, 23 VSS, 24 MRST, 25 VSS, 26 VCC, 27 RBI, 28 GPIO_B, 29 ADREN, 30 SMBA

## Heatsink
designator H?, comment 573300D00010G  (value not drawn)
TO-226 Surface Mount 18.00 C/W Thermal Resistance D2 Semiconductor Heat Sink; Manufacturer: Aavid Thermalloy; Finish: Tin; Shape: Rectangular; Natural Thermal Resistance: 18°C/W; Thermal Resistance @ Forced Air Flow (100 LFM): 10°C/W; Supplier: Mouser; Supplier Part Number: 532-573300D00010G; Manufacturer Part Number: 573300D00010G; RoHS: Yes; Category: Heat Sinks; Stock: 19952; Pricing: 1=0,9, 10=0,797, 50=0,797, 100=0,787, 1000=0,675, 10000=0,659 (USD); Mounting Technology: Surface Mount,PCB; Case/Package: TO-263; Material: Copper,Tin,Matte; Type: Passive; Package Quantity: 250; Packaging: Tape and Reel; Length: 26.16mm; Width: 26.16mm; Height: 10.16mm; Depth: 12.7mm; Height Off Base: 0.4inch; Radiation Hardening: No; RoHS Compliant: Yes; Lead Free: Lead Free; Reach SVHC Compliant: No; ComponentLink1URL: https://datasheet.ciiva.com/17/aavid-board-level-heatsinks-catalog-17057.pdf?src-supplier=Digikey; ComponentLink1Description: https://datasheet.ciiva.com/17/aavid-board-level-heatsinks-catalog-17057.pdf?src-supplier=Digikey; ComponentLink2URL: https://datasheet.ciiva.com/19459/2033463202-19459463.pdf?src-supplier=Jameco; ComponentLink2Description: https://datasheet.ciiva.com/19459/2033463202-19459463.pdf?src-supplier=Jameco; ComponentLink3URL: https://datasheet.ciiva.com/1004/aavid-board-level-heatsinks-catalog-1004051.pdf?src-supplier=Digikey; ComponentLink3Description: https://datasheet.ciiva.com/1004/aavid-board-level-heatsinks-catalog-1004051.pdf?src-supplier=Digikey; ComponentLink4URL: https://datasheet.ciiva.com/1004/aavid-board-level-heatsinks-catalog-1004052.pdf?src-supplier=Digikey; ComponentLink4Description: https://datasheet.ciiva.com/1004/aavid-board-level-heatsinks-catalog-1004052.pdf?src-supplier=Digikey; ComponentLink5URL: https://datasheet.ciiva.com/15182/getdatasheetpartid-110609-15182557.pdf?src-supplier=Verical; ComponentLink5Description: https://datasheet.ciiva.com/15182/getdatasheetpartid-110609-15182557.pdf?src-supplier=Verical; ComponentLink6URL: https://datasheet.ciiva.com/8004/1581390-8004589.pdf?src-supplier=Element14; ComponentLink6Description: https://datasheet.ciiva.com/8004/1581390-8004589.pdf?src-supplier=Element14
footprint HEATSINK

## HEX STANDOFF
designator H?, comment 1902C  (value not drawn)
Transistor: 2xN-MOSFET; unipolar; 20V; 1.1A; 0.235ohm; 420mW; -55+150 deg.C; SMD; SC70-6; Manufacturer: Vishay; Manufacturer Part Number: SI1902CDL-T1-GE3; Supplier: Mouser; Supplier Part Number: 78-SI1902CDL-T1-GE3; RoHS: Yes; Category: MOSFETs; Stock: 101273; Pricing: 1=0,43, 10=0,325, 50=0,325, 100=0,177, 1000=0,119, 10000=0,101 (USD); ComponentLink1URL: https://datasheet.ciiva.com/24010/si1902cdl-256522-24010888.pdf?src-supplier=Mouser; ComponentLink1Description: https://datasheet.ciiva.com/24010/si1902cdl-256522-24010888.pdf?src-supplier=Mouser; ComponentLink2URL: https://datasheet.ciiva.com/29589/si1902cdl-29589781.pdf?src-supplier=Digikey; ComponentLink2Description: https://datasheet.ciiva.com/29589/si1902cdl-29589781.pdf?src-supplier=Digikey
footprint HEX_STANDOFF